# Altium schematic symbol library led.SchLib: 18 symbols
Pins are listed as number, name and electrical type; pins without a type are passive.

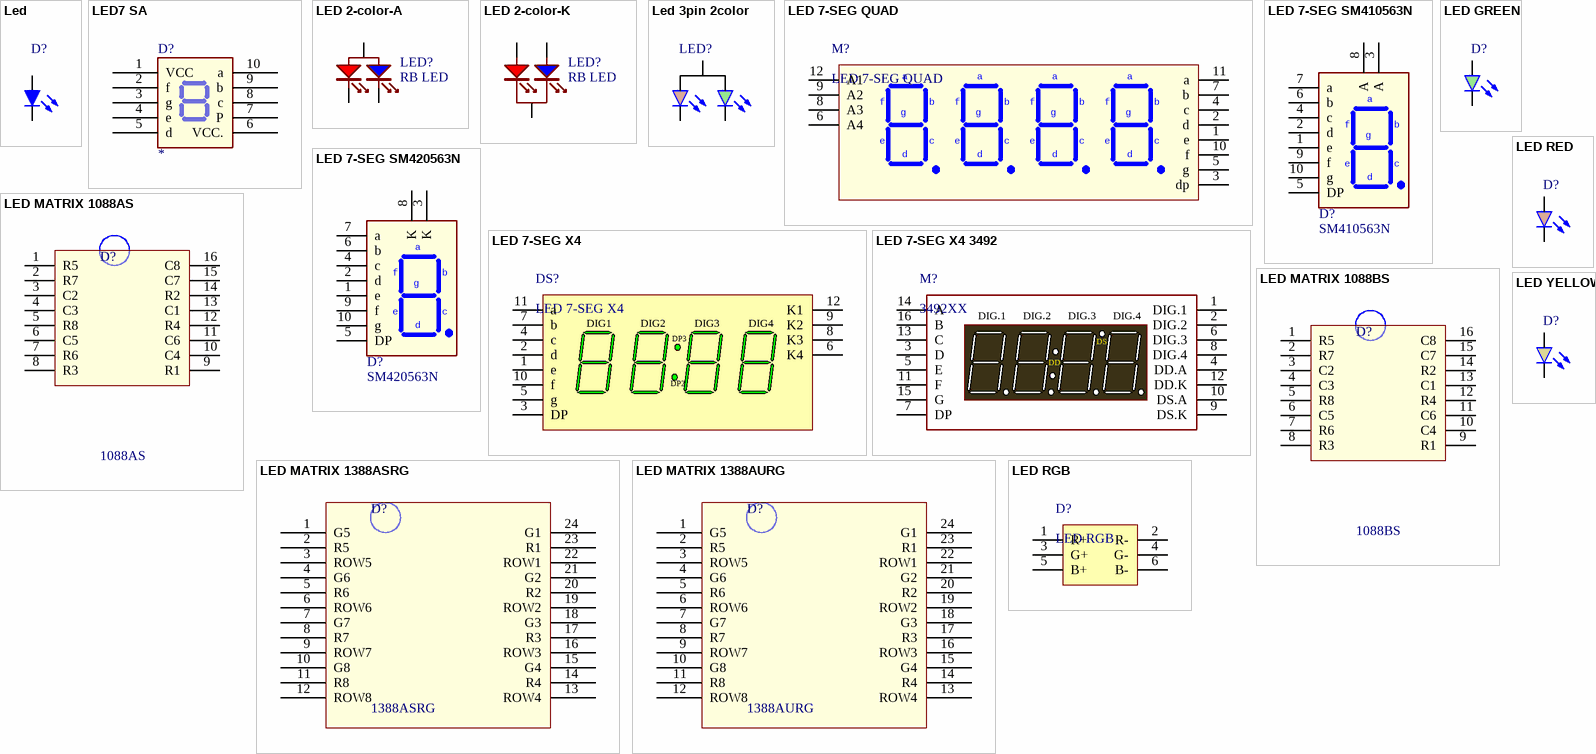
[diagram p0: symbols Led to LED YELLOW]

## Led
designator D?
Typical LED
footprint Led 0805 (Led SMD 0805)
footprint Led 0603 - green (Led SMD 0603)
footprint Led 0603 - orange (Led SMD 0603)
footprint Led 0603 - red (Led SMD 0603)
footprint Led 0603 - yellow (Led SMD 0603)
footprint Led 0603 (Led SMD 0603)
footprint LED 3MM - green
footprint LED 3MM - red
footprint LED 5MM - GREEN
footprint LED 5MM - RED
footprint LED 5MM - WHITE
footprint Led 0805 Blue (Led SMD 0805)
footprint Led 0805 Green (Led SMD 0805)
footprint Led 0805 RED (Led SMD 0805)
footprint LED 3MM - blue
footprint LED 3MM - yellow
pins: 1 A, 2 K

## LED7 SA
designator D?
pins: 1 VCC, 2 f, 3 g, 4 e, 5 d, 6 VCC., 7 P, 8 c, 9 b, 10 a

## LED 2-color-A
designator LED?, comment RB LED
Bicolor RB 3mm LED
footprint LED-BICOLOR-3MM (Diode, Axial; Body 5.2 x 2.7 mm (LxDia. max), Lead Dia. 0.86 mm (max))
pins: 1 K1 "Anode", 2 A "Cathode", 3 K2 "Anode"

## LED 2-color-K
designator LED?, comment RB LED
Bicolor RB 3mm LED
footprint LED-BICOLOR-3MM (Diode, Axial; Body 5.2 x 2.7 mm (LxDia. max), Lead Dia. 0.86 mm (max))
pins: 1 AR "Anode", 2 K "Cathode", 3 AB "Anode"

## Led 3pin 2color
designator LED?
Typical LED 3-pin 2-color
footprint LED 3PIN 2COLOR 5MM
pins: 1 RK, 2 A, 3 YK

## LED 7-SEG QUAD
designator M?
LED 7-SEG 0.56 QUAD RED
footprint LED/7SEG/0.56/QUAD
pins: 1 e, 2 d, 3 dp, 4 c, 5 g, 6 A4, 7 b, 8 A3, 9 A2, 10 f, 11 a, 12 A1

## LED 7-SEG SM410563N
designator D?, comment SM410563N
SM410563N, Common-Anode, LED 7-seg, RED, 0.56",
footprint LED/7SEG/0.56
pins: 1 e, 2 d, 3 A "Anode", 4 c, 5 DP "Dot point", 6 b, 7 a, 8 A "Anode", 9 f, 10 g

## LED 7-SEG SM420563N
designator D?, comment SM420563N
SM420563N, Common-Cathode, LED 7-seg, RED, 0.56",
footprint LED/7SEG/0.56
pins: 1 e, 2 d, 3 K "Anode", 4 c, 5 DP "Dot point", 6 b, 7 a, 8 K "Anode", 9 f, 10 g

## LED 7-SEG X4
designator DS?
LED 7-seg x4 HDSP-B09G
footprint LED 7-SEG X4 B-88 (LED, 7-Segment Display, 14.22 mm, Four Digit, 88:88; 12 Leads; Row Space 15.24 mm; Pitch 2.54 mm)
pins: 1 e "Digits (1-4) e Anode", 2 d "Digits (1-4) d Anode", 3 DP "Digits (2,3) DP Anode", 4 c "Digits (1-4) c Anode", 5 g "Digits (1-4) g Anode", 6 K4 "Digit 4 Common Cathode", 7 b "Digits (1-4) b Anode", 8 K3 "Digit 3 Common Cathode", 9 K2 "Digit 2 Common Cathode", 10 f "Digits (1-4) f Anode", 11 a "Digits (1-4) a Anode", 12 K1 "Digit 1 Common Cathode"
text: DIG1; DIG2; DIG3; DIG4; DP3; DP2

## LED 7-SEG X4 3492
designator M?, comment 3492XX
LED 7-seg x4 HDSP-B09G
footprint LED 7-SEG X4 3492XX (LED, 7-Segment Display, 14.22 mm, Four Digit, 88:88; 12 Leads; Row Space 15.24 mm; Pitch 2.54 mm)
pins: 1 DIG.1, 2 DIG.2, 3 D, 4 DD.A, 5 E, 6 DIG.3, 7 DP, 8 DIG.4, 9 DS.K, 10 DS.A, 11 F, 12 DD.K, 13 C, 14 A, 15 G, 16 B
text: DS; DD

## LED GREEN
designator D?  (value not drawn)
Typical LED 3-pin 2-color
footprint LED 10MM - GREEN
pins: 1 A, 2 K

## LED MATRIX 1088AS
designator D?, comment 1088AS
1088AS, Common-Cathode, LED Matrix 8x8, RED, 32x32mm
footprint LED/MATRIX/1088
pins: 1 R5, 2 R7, 3 C2, 4 C3, 5 R8, 6 C5, 7 R6, 8 R3, 9 R1, 10 C4, 11 C6, 12 R4, 13 C1, 14 R2, 15 C7, 16 C8

## LED MATRIX 1088BS
designator D?, comment 1088BS
1088BS, Common-Anode, LED Matrix 8x8, RED, 32x32mm
footprint LED/MATRIX/1088
pins: 1 R5, 2 R7, 3 C2, 4 C3, 5 R8, 6 C5, 7 R6, 8 R3, 9 R1, 10 C4, 11 C6, 12 R4, 13 C1, 14 R2, 15 C7, 16 C8

## LED MATRIX 1388ASRG
designator D?, comment 1388ASRG
1388ASRG, Common-Cathode, LED Matrix 8x8, RED-GREEN, 32x32mm
footprint LED/MATRIX/1388
pins: 1 G5, 2 R5, 3 ROW5, 4 G6, 5 R6, 6 ROW6, 7 G7, 8 R7, 9 ROW7, 10 G8, 11 R8, 12 ROW8, 13 ROW4, 14 R4, 15 G4, 16 ROW3, 17 R3, 18 G3, 19 ROW2, 20 R2, 21 G2, 22 ROW1, 23 R1, 24 G1

## LED MATRIX 1388AURG
designator D?, comment 1388AURG
1388AURG, Common-Anode, LED Matrix 8x8, RED-GREEN, 32x32mm
footprint LED/MATRIX/1388
pins: 1 G5, 2 R5, 3 ROW5, 4 G6, 5 R6, 6 ROW6, 7 G7, 8 R7, 9 ROW7, 10 G8, 11 R8, 12 ROW8, 13 ROW4, 14 R4, 15 G4, 16 ROW3, 17 R3, 18 G3, 19 ROW2, 20 R2, 21 G2, 22 ROW1, 23 R1, 24 G1

## LED RED
designator D?  (value not drawn)
Typical LED 3-pin 2-color
footprint LED 10MM - RED
pins: 1 A, 2 K

## LED RGB
designator D?
footprint LED RGB 5050
pins: 1 R+, 2 R-, 3 G+, 4 G-, 5 B+, 6 B-

## LED YELLOW
designator D?  (value not drawn)
Typical LED 3-pin 2-color
footprint LED 10MM - YELLOW
pins: 1 A, 2 K